# Altium footprint library Mobile_adapter_5V_1A_LQ.PcbLib: 15 footprints
Each footprint in its own frame and in the unit in brackets; x right, y up, seen from the top. Pads: shape width x height; smd on the part's side, far side on the other; paste and mask are expansions set on the pad; w line width, h text height; cw(c..) or ccw(c..) is an arc to the next point about the centre after c.
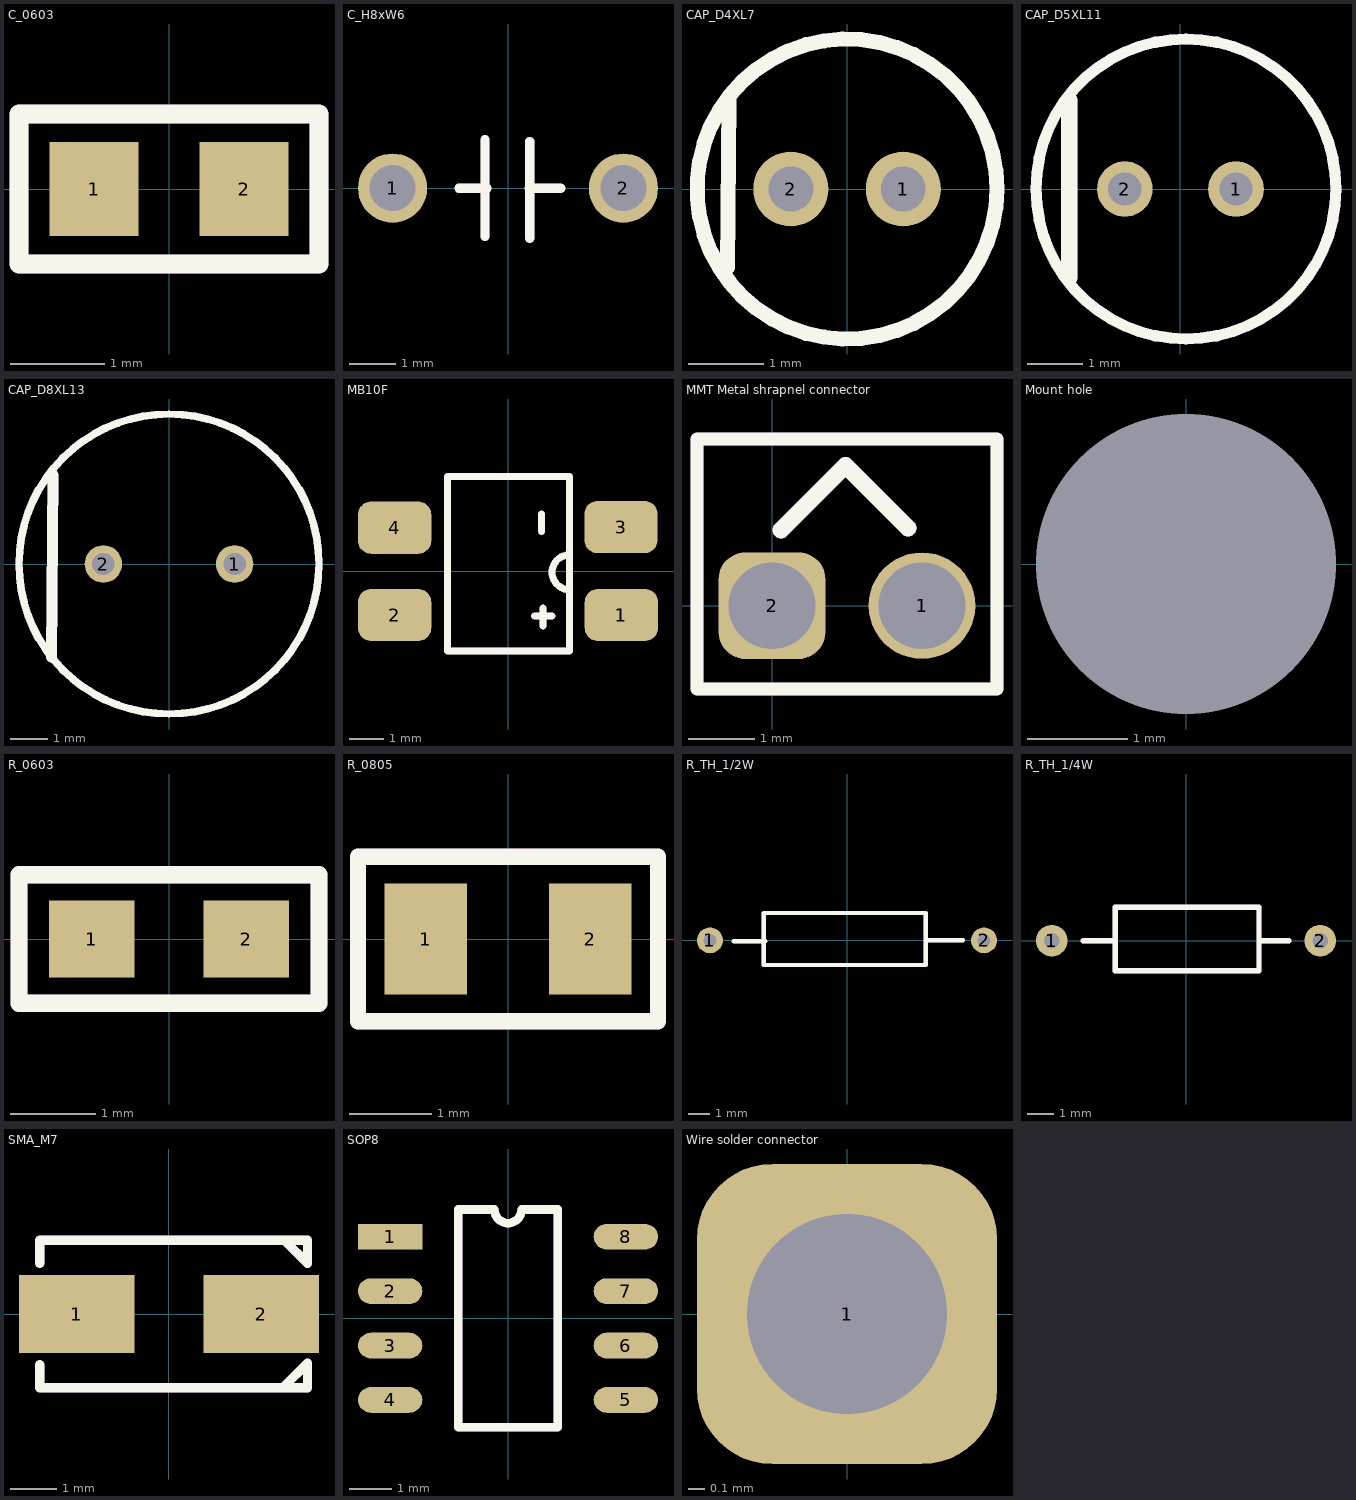
[diagram p0: the footprints below, top view; thin cyan lines are the x and y axes]

## C_0603 [mm]
pads (2):
  rect 0.95x1 smd: 1(-0.8,0) 2(0.8,0)
Top Overlay:
  lines w0.2: -1.6,-0.8 -1.6,0.8 1.6,0.8 1.6,-0.8 -1.6,-0.8
Top Assembly:
  lines w0.2: -1.6,-0.8 -1.6,0.8 1.6,0.8 1.6,-0.8 -1.6,-0.8
  text "'.Designator'" at -1.275,-0.3 h0.6
3D body "0603YC223KAT2A.STEP": height 0.82, standoff 0.01, extent -0.8,-0.45 0.8,0.45

## C_H8xW6 [mm] "p=5mm"
pads (2):
  round 1.5 hole 1: 1(-2.5,0) 2(2.5,0)
Top Overlay:
  lines w0.2: -1.063,0 -0.454,0 ; -0.5,-1.046 -0.5,1.046 ; 0.454,0 1.144,0 ; 0.472,-1.083 0.472,1.009
Top Assembly:
  lines w0.2: -1.063,0 -0.454,0 ; -0.5,-1.046 -0.5,1.046 ; 0.454,0 1.144,0 ; 0.472,-1.083 0.472,1.009
  text "'.Designator'" at -1.746,-1.738 h1.52
3D body "C_W6xH8_P5.step": height 8.8, standoff -2.2, extent -2.995,-0.499 3.005,0.501

## CAP_D4XL7 [mm] "p=1.5mm"
pads (2):
  round 1 hole 0.6: 1(0.75,0) 2(-0.75,0)
Top Overlay:
  circle w0.2: c0,0 r2
  lines w0.2: -1.594,-1.049 -1.575,1.187
Top Assembly:
  text "'.Designator'" at -0.8,-0.941 h0.7
3D body "Cap_D4xL7_P1.5.step": height 7.3, standoff -1.62, extent -2.021,-2 2,2

## CAP_D5XL11 [mm] "p=2mm"
pads (2):
  round 1 hole 0.6: 1(1,0) 2(-1,0)
Top Overlay:
  circle w0.2: c0.1,0 r2.7
  lines w0.3: -2,-1.6 -2,1.6
Top Assembly:
  circle w0.2: c0.1,0 r2.7
  lines w0.3: -2,-1.6 -2,1.6
  text "'.Designator'" at -1.1,-0.967 h0.7
3D body "Aluminum_electrolytic_capacitor_radial_D5_H11_PinD0.5_Pitch2_nominal_black.step": height 11.2, standoff -2.8, extent -2.49,-2.499 2.5,2.499

## CAP_D8XL13 [mm] "p=3.5mm"
pads (2):
  round 1 hole 0.6: 1(1.75,0) 2(-1.75,0)
Top Overlay:
  circle w0.2: c0,0 r4
  lines w0.3: -3.135,-2.482 -3.093,2.364
Top Assembly:
  circle w0.2: c0,0 r4
  lines w0.3: -3.135,-2.482 -3.093,2.364
  text "'.Designator'" at -1.85,-0.967 h0.7
3D body "Cap_D8xL13_P3.5.step": height 13.3, standoff -1.62, extent -4.021,-3.997 4,3.997

## MB10F [mm]
pads (5):
  rrect50% 2.1x1.5 smd: 1(3.25,-1.26) 1(3.25,-1.26) 2(-3.25,-1.26) 3(3.24,1.26) 4(-3.25,1.243)
Top Overlay:
  lines w0.2: 0.765,-1.286 1.265,-1.286 ; 0.963,1.13 0.963,1.64 ; 1.001,-1.575 1.001,-1.065 ; 1.765,-0.536 cw(c1.765,-0.036) 1.765,0.464 ; -1.735,-2.286 -1.735,2.714 1.765,2.714 1.765,2.214 1.765,-2.286 -1.735,-2.286
Top Assembly:
  lines w0.2: 0.765,-1.286 1.265,-1.286 ; 0.963,1.13 0.963,1.64 ; 1.001,-1.575 1.001,-1.065 ; 1.765,-0.536 cw(c1.765,-0.036) 1.765,0.464 ; -1.735,-2.286 -1.735,2.714 1.765,2.714 1.765,2.214 1.765,-2.286 -1.735,-2.286
  text "'.Designator'" at 0.065,-2.911 h1.52
3D body "MB10F_DIO.step": height 1.81, standoff 0, extent -3.505,-2.476 3.505,2.476

## MMT Metal shrapnel connector [mm]
pads (2):
  round 1.6 hole 1.3: 1(2.25,0)
  rrect50% 1.6x1.6 hole 1.3: 2(0,0)
Top Overlay:
  lines w0.2: -1.125,-1.25 -1.125,2.5 3.375,2.5 3.375,-1.25 -1.125,-1.25
  lines w0.254: 0.135,1.135 1.1,2.1 2.038,1.162
Top Assembly:
  lines w0.2: -1.125,-1.25 -1.125,2.5 3.375,2.5 3.375,-1.25 -1.125,-1.25
  lines w0.254: 0.135,1.135 1.1,2.1 2.038,1.162
  text "'.Designator'" at -0.775,-0.417 h0.7
3D body "MC Metal Shrapnel Contact.step": height 9.55, standoff -2.3, extent 0,-0.5 2.5,2.67

## Mount hole [mm] "M3"
pads (1):
  round 0 hole 3: A(0,0)

## R_0603 [mm]
pads (2):
  rect 1x0.9 smd: 1(-0.9,0) 2(0.9,0)
Top Overlay:
  lines w0.2: -1.75,-0.75 -1.75,0.75 1.75,0.75 1.75,-0.75 -1.75,-0.75
Top Assembly:
  lines w0.2: -1.75,-0.75 -1.75,0.75 1.75,0.75 1.75,-0.75 -1.75,-0.75
  text "'.Designator'" at -1.4,-0.167 h0.7
3D body "RC0603JR-070RL--3DModel-STEP-510211.STEP": height 0.56, standoff 0.01, extent -0.8,-0.4 0.8,0.4

## R_0805 [mm]
pads (2):
  rect 1x1.35 smd: 1(-1,0) 2(1,0)
Top Overlay:
  lines w0.2: -1.825,-1 -1.825,1 1.825,1 1.825,-1 -1.825,-1
Top Assembly:
  lines w0.2: -1.825,-1 -1.825,1 1.825,1 1.825,-1 -1.825,-1
  text "'.Designator'" at -1.725,-0.667 h0.7
3D body "RC0805FR-07470RL.STEP": height 0.61, standoff 0.01, extent -1,-0.625 1,0.625

## R_TH_1/2W [mm]
pads (2):
  round 1.2 hole 0.6: 1(-6.35,0) 2(6.35,0)
Top Overlay:
  lines w0.2: -5.245,-0.041 -3.781,-0.041 ; 3.65,0 5.37,0 ; -3.85,-1.143 -3.85,1.27 3.65,1.27 3.65,-1.143 -3.85,-1.143
Top Assembly:
  lines w0.2: -5.245,-0.041 -3.781,-0.041 ; 3.65,0 5.37,0 ; -3.85,-1.143 -3.85,1.27 3.65,1.27 3.65,-1.143 -3.85,-1.143
  text "'.Designator'" at -3.575,-0.565 h1.52
3D body "R_TH_500mW.step": height 3.6, standoff -1.92, extent -6.668,-1.506 6.582,1.687

## R_TH_1/4W [mm]
pads (2):
  round 1.2 hole 0.6: 1(-5.1,0) 2(5.1,0)
Top Overlay:
  lines w0.2: -3.9,0 -2.687,0 ; 2.774,0 3.9,0 ; -2.687,-1.143 -2.687,1.27 2.774,1.27 2.774,-1.143 -2.687,-1.143
Top Assembly:
  lines w0.2: -3.9,0 -2.687,0 ; 2.774,0 3.9,0 ; -2.687,-1.143 -2.687,1.27 2.774,1.27 2.774,-1.143 -2.687,-1.143
  text "'.Designator'" at -2.687,-0.635 h1.52
3D body "R_TH_250mW.step": height 2.8, standoff -1.92, extent -5.345,-1.152 5.305,1.143

## SMA_M7 [mm]
pads (2):
  rect 2.5x1.7 smd: 1(-2,0) 2(2,0)
Top Overlay:
  lines w0.2: -2.8,-1.1 -2.8,-1.6 3,-1.6 3,-1.067 2.5,-1.567 ; -2.8,1.1 -2.8,1.6 3,1.6 3,1.1 2.5,1.6
Top Assembly:
  lines w0.2: -2.8,-1.1 -2.8,-1.6 3,-1.6 3,-1.067 2.5,-1.567 ; -2.8,1.1 -2.8,1.6 3,1.6 3,1.1 2.5,1.6
  text "'.Designator'" at -2.1,-0.133 h0.8
3D body "SMAZ5V1-13-F.STEP": height 2.41, standoff 0.01, extent -2.498,-1.3 2.698,1.305

## SOP8 [mm]
pads (8):
  rect 1.5x0.6 smd: 1(-2.75,1.905)
  oval 1.5x0.6 smd: 2(-2.75,0.635) 3(-2.75,-0.635) 4(-2.75,-1.905) 5(2.75,-1.905) 6(2.75,-0.635) 7(2.75,0.635) 8(2.75,1.905)
Top Overlay:
  lines w0.2: -1.165,-2.54 1.165,-2.54 1.165,2.54 0.318,2.54 cw(c0,2.54) -0.318,2.54 -1.165,2.54 -1.165,-2.54
Top Assembly:
  lines w0.2: -1.165,-2.54 1.165,-2.54 1.165,2.54 0.318,2.54 cw(c0,2.54) -0.318,2.54 -1.165,2.54 -1.165,-2.54
  text "'.Designator'" at 0.671,-2.45 h1.52
3D body "SOP-8.STEP": height 1.87, standoff 0, extent -3.066,-2.5 3.154,2.5

## Wire solder connector [mm]
pads (1):
  rrect50% 1.8x1.8 hole 1.2: 1(0,0)